# Altium schematic symbol library USB ICs.SchLib: 3 symbols
Pins are listed as number, name and electrical type; pins without a type are passive.

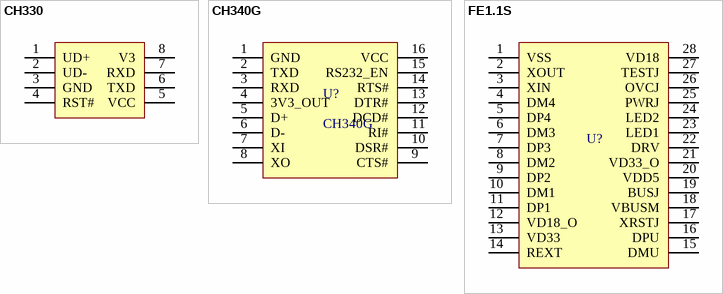
[diagram p0: symbols CH330 to FE1.1S]

## CH330
designator U?  (value not drawn)
USB to COM
footprint SOP-8
pins: 1 UD+, 2 UD-, 3 GND, 4 RST#, 5 VCC, 6 TXD, 7 RXD, 8 V3

## CH340G
designator U?
USB to COM
footprint SOP-16
pins: 1 GND, 2 TXD, 3 RXD, 4 3V3_OUT, 5 D+, 6 D-, 7 XI, 8 XO, 9 CTS#, 10 DSR#, 11 RI#, 12 DCD#, 13 DTR#, 14 RTS#, 15 RS232_EN, 16 VCC

## FE1.1S
designator U?, comment USB2.0 HUB  (value not drawn)
USB Hub
footprint SSOP-28
pins: 1 VSS, 2 XOUT, 3 XIN, 4 DM4, 5 DP4, 6 DM3, 7 DP3, 8 DM2, 9 DP2, 10 DM1, 11 DP1, 12 VD18_O, 13 VD33, 14 REXT, 15 DMU, 16 DPU, 17 XRSTJ, 18 VBUSM, 19 BUSJ, 20 VDD5, 21 VD33_O, 22 DRV, 23 LED1, 24 LED2, 25 PWRJ, 26 OVCJ, 27 TESTJ, 28 VD18